# EAGLE library part M03X2 (library Taylor)
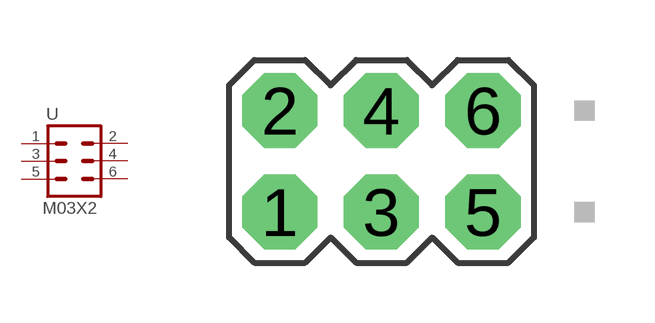
[diagram p6: symbol with the pads of 3X2; footprint 3X2]

Designator prefix -

## M03X2'  [3X2]
1  1  pas
2  2  pas
3  3  pas
4  4  pas
5  5  pas
6  6  pas

## Footprint 3X2 (pad centres in mm)
drill 1.016 pad 1.88 octagon: 1 -3.81,-1.27; 2 -3.81,1.27; 3 -1.27,-1.27; 4 -1.27,1.27; 5 1.27,-1.27; 6 1.27,1.27